# EAGLE library part AP3019A (library muccc)
AP3019A Step Up LED Driver
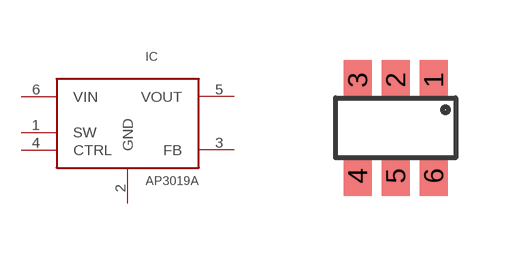
[diagram p8: symbol with the pads of SOT-23-6; footprint SOT-23-6]

Designator prefix IC

## AP3019A  [SOT-23-6]
1  SW
2  GND
3  FB
4  CTRL
5  VOUT
6  VIN

## Footprint SOT-23-6 (pad centres in mm)
smd 0.7 x 1: 1 0.95,1.2; 2 0,1.2; 3 -0.95,1.2; 4 -0.95,-1.2; 5 0,-1.2; 6 0.95,-1.2